# Altium footprint library STM32智能储物柜.PcbLib: 11 footprints
Each footprint in its own frame and in the unit in brackets; x right, y up, seen from the top. Pads: shape width x height; smd on the part's side, far side on the other; paste and mask are expansions set on the pad; w line width, h text height; cw(c..) or ccw(c..) is an arc to the next point about the centre after c.
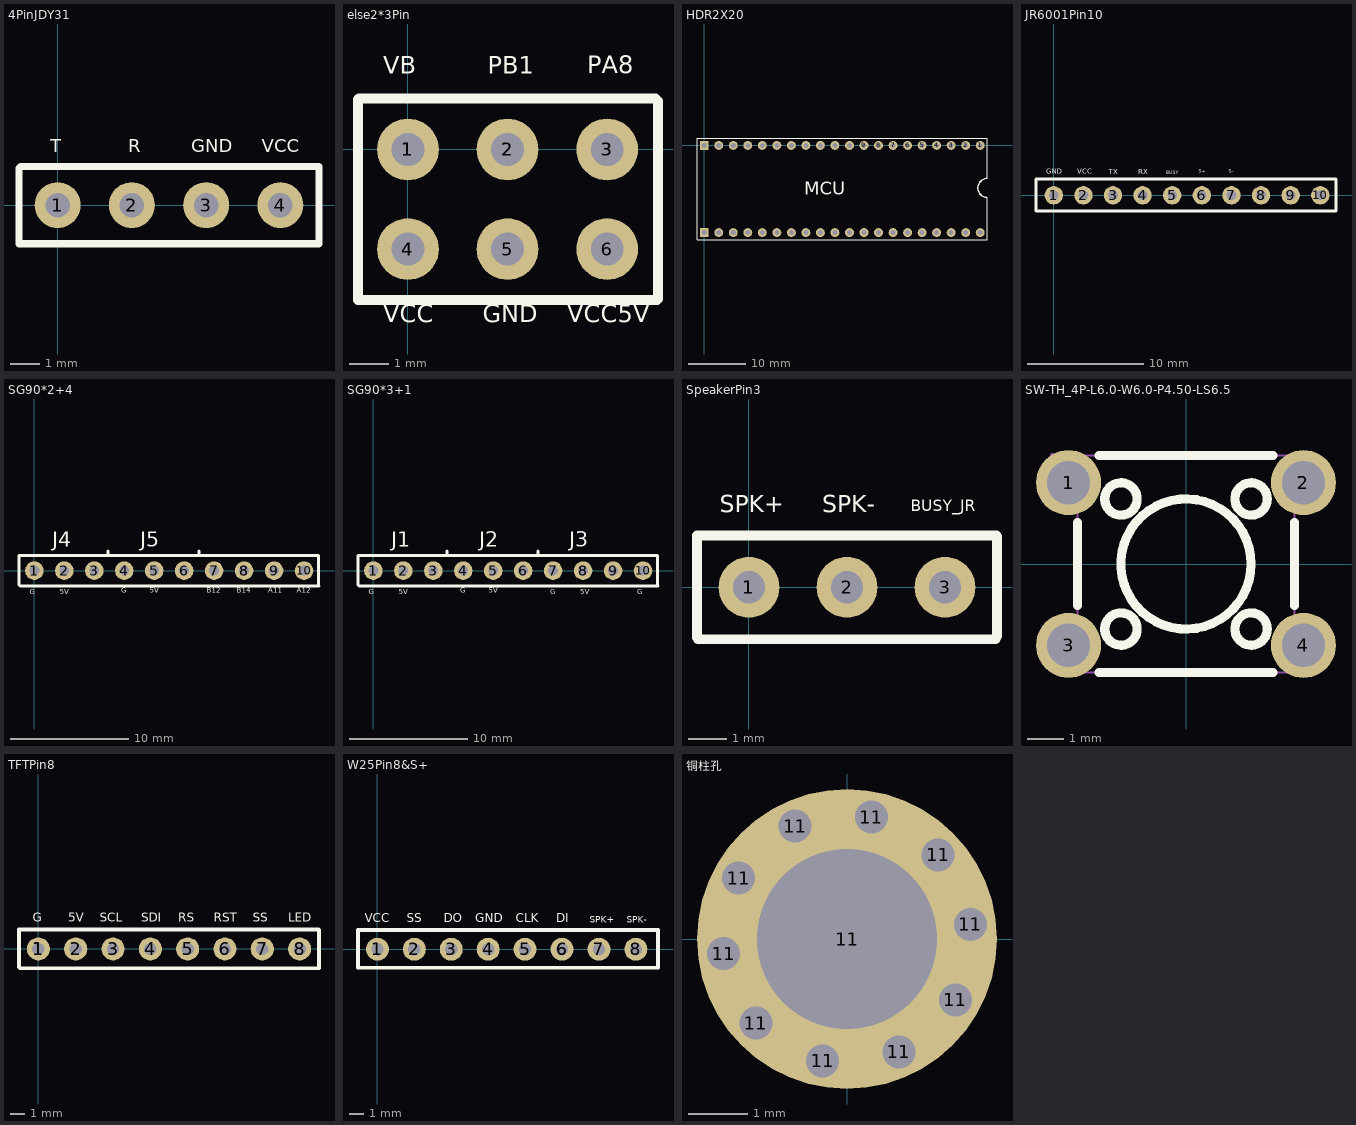
[diagram p0: the footprints below, top view; thin cyan lines are the x and y axes]

## 4PinJDY31 [mil] "jdy31"
pads (4):
  round 62 hole 33 mask+4: 1(0,0) 2(100,0) 3(200,0) 4(300,0)
Top Overlay:
  lines w10: -52,-52 -52,50 -50,52 352,52 352,-52 ; -50,-52 350,-52
  text "T" at -10,65 h30
  text "R" at 95,65 h30
  text "GND" at 180,65.36 h30
  text "VCC" at 275,65.33 h30

## else2*3Pin [mil] "其余IO&VCC"
pads (14):
  round 62 hole 33: 1(0,0) 1(0,0) 1(0,0) 1(0,0) 1(0,0) 1(0,0) 2(100,0) 2(100,0) 3(200,0) 3(200,0) 4(0,-100) 4(0,-100) 5(100,-100) 6(200,-100)
Top Overlay:
  lines w10: -50.12,50.42 -50.12,-151 250.01,-151 251,-150.01 251,48.57 248.4,51.17 -49.38,51.17
  text "VB" at -24.97,70 h30
  text "PB1" at 80,70 h30
  text "PA8" at 180,70.33 h30
  text "VCC" at -24.97,-179.67 h30
  text "GND" at 75,-179.67 h30
  text "VCC5V" at 160.03,-179.67 h30

## HDR2X20 [mil] "主控电路"
height 170.08
pads (40):
  round 61 hole 35.43: 1(1900,0) 2(1800,0) 3(1700,0) 4(1600,0) 5(1500,0) 6(1400,0) 7(1300,0) 8(1200,0) 9(1100,0) 10(1000,0) 11(900,0) 12(800,0) 13(700,0) 14(600,0) 15(500,0) 16(400,0) 17(300,0) 18(200,0) 19(100,0) 21(1900,-600) 22(1800,-600) 23(1700,-600) 24(1600,-600) 25(1500,-600) 26(1400,-600) 27(1300,-600) 28(1200,-600) 29(1100,-600) 30(1000,-600) 31(900,-600) 32(800,-600) 33(700,-600) 34(600,-600) 35(500,-600) 36(400,-600) 37(300,-600) 38(200,-600) 39(100,-600)
  rect 61x61 hole 35.43: 20(0,0) 40(0,-600)
Top Overlay:
  lines w7.87: -50,-550.75 -50,50 25,50 1950,50 1950,-227.04 ; -50,-550 -50,-650 1950,-650 1950,-358.9
  lines w10: 1950,-358.9 cw(c1950,-292.97) 1950,-227.04
  text "MCU" at 690,-340 h90

## JR6001Pin10 [mil] "JR6001语音"
pads (10):
  round 62 hole 33: 1(0,0) 2(100,0) 3(200,0) 4(300,0) 5(400,0) 6(500,0) 7(600,0) 8(700,0) 9(800,0) 10(900,0)
Top Overlay:
  lines w10: -60.04,-53 953,-53 953,55 -60,55 -60,-52.96
  text "S-" at 590,70.22 h20
  text "S+" at 490,70.22 h20
  text "BUSY" at 380,65.22 h20
  text "RX" at 285,65 h30
  text "TX" at 185,65 h30
  text "VCC" at 80.03,65.33 h30
  text "GND" at -25,65.33 h30

## SG90*2+4 [mil] "舵机*2"
pads (12):
  round 62 hole 33: 1(0,0) 1(0,0) 2(100,0) 3(200,0) 4(300,0) 5(400,0) 6(500,0) 7(600,0) 8(700,0) 8(700,0) 9(800,0) 10(900,0)
Top Overlay:
  lines w10: -51.2,51 948.1,51 948.1,-49.1 ; -51,50.69 -51,-47.68 -47.68,-51 950,-51 ; 245,50 245,65 ; 550,50 550,65
  text "G" at -15,-84.67 h30
  text "5V" at 385,-79.67 h30
  text "5V" at 85,-84.67 h30
  text "G" at 290,-79.67 h30
  text "J4" at 59,79 h50
  text "J5" at 354,79 h50
  text "A11" at 780,-80 h30
  text "A12" at 875,-80 h30
  text "B12" at 575,-80 h30
  text "B14" at 675,-80 h30

## SG90*3+1 [mil] "舵机*3"
pads (12):
  round 62 hole 33: 1(0,0) 1(0,0) 2(100,0) 3(200,0) 4(300,0) 5(400,0) 6(500,0) 7(600,0) 8(700,0) 8(700,0) 9(800,0) 10(900,0)
Top Overlay:
  lines w10: -51.2,51 948.1,51 948.1,-49.1 ; -51,50.69 -51,-47.68 -47.68,-51 950,-51 ; 245,50 245,65 ; 550,50 550,65
  text "G" at 590,-84.67 h30
  text "G" at -15,-84.67 h30
  text "5V" at 385,-79.67 h30
  text "5V" at 85,-84.67 h30
  text "G" at 290,-79.67 h30
  text "5V" at 690,-84.67 h30
  text "J1" at 59,79 h50
  text "J2" at 354,79 h50
  text "J3" at 654,79 h50
  text "G" at 880,-84.64 h30

## SpeakerPin3 [mil] "喇叭Pin3"
pads (4):
  round 62 hole 33: 1(0,0) 1(0,0) 2(100,0) 3(200,0)
Top Overlay:
  lines w10: -53,-51.29 -53,52.85 ; -52.01,-53 251.48,-53 ; -50.84,52.59 252.41,52.59 253,52 253,-50
  text "BUSY_JR" at 165,73.55 h20
  text "SPK+" at -30,70.33 h30
  text "SPK-" at 75,70.33 h30

## SW-TH_4P-L6.0-W6.0-P4.50-LS6.5 [mm] "矩阵键盘"
pads (4):
  round 1.8 hole 1.2: 1(-3.25,2.25) 2(3.25,2.25) 3(-3.25,-2.25) 4(3.25,-2.25)
Top Overlay:
  circle w0.254: c0,0 r1.8
  circle w0.254: c1.8,1.8 r0.447
  circle w0.254: c-1.8,1.8 r0.447
  circle w0.254: c-1.8,-1.8 r0.447
  circle w0.254: c1.8,-1.8 r0.447
  lines w0.254: -3,-1.147 -3,1.147 ; -2.404,-3 2.404,-3 ; -2.404,3 2.404,3 ; 3,-1.147 3,1.147
Mechanical 15:
  region: -3.64,3 -3.64,3.025 -3.675,3.06 -3.725,3.06 -3.76,3.025 -3.76,3 -3.76,2.975 -3.725,2.94 -3.675,2.94 -3.64,2.975 -3.64,3
  region: -2.9,-1.9 -2.9,-2.6 -3.7,-2.6 -3.7,-1.9
  region: -2.9,2.6 -2.9,1.9 -3.7,1.9 -3.7,2.6
  region: 2.9,1.9 2.9,2.6 3.7,2.6 3.7,1.9
  region: 2.9,-2.6 2.9,-1.9 3.7,-1.9 3.7,-2.6
  region: -3.4,-1.9 -3.1,-1.9 -3.1,-2.6 -3.4,-2.6
  region: -3.4,2.6 -3.1,2.6 -3.1,1.9 -3.4,1.9
  region: 3.1,2.6 3.4,2.6 3.4,1.9 3.1,1.9
  region: 3.1,-1.9 3.4,-1.9 3.4,-2.6 3.1,-2.6
  lines w0.051: -3,-3 3,-3 3,3 -3,3 -3,-3

## TFTPin8 [mil] "TFT1_44液晶屏"
pads (9):
  round 62 hole 33: 1(0,0) 1(0,0) 2(100,0) 3(200,0) 4(300,0) 5(400,0) 6(500,0) 7(600,0) 8(700,0)
Top Overlay:
  lines w10: -52,-48.91 -52,52 751.34,52 752,51.34 752,-52 -48.91,-52 -52,-48.91
  text "LED" at 670,65 h40
  text "SS" at 575,65.48 h40
  text "RST" at 470,65.48 h40
  text "RS" at 375,65.48 h40
  text "SDI" at 275,65.48 h40
  text "SCL" at 165,65.48 h40
  text "5V" at 80,65.48 h40
  text "G" at -15,65.48 h40

## W25Pin8&S+ [mil] "W25Q64"
pads (10):
  round 62 hole 33: 1(0,0) 1(0,0) 2(100,0) 3(200,0) 4(300,0) 5(400,0) 6(500,0) 6(500,0) 7(600,0)
  round 62 hole 33 paste+0 mask+4: 8(700,0)
Top Overlay:
  lines w10: -52.6,-50 -52.6,52 760,52 760,-50 -52.6,-50
  text "SPK-" at 675,65.33 h30
  text "SPK+" at 575,65.33 h30
  text "VCC" at -34.96,65.44 h40
  text "SS" at 80,65.44 h40
  text "DO" at 180,65.44 h40
  text "GND" at 265,65.44 h40
  text "CLK" at 375,65.44 h40
  text "DI" at 485,65 h40

## 铜柱孔 [mil]
height 35.43
pads (11):
  round 23 hole 22: 11(-82.21,-9.67) 11(-72.19,40.5) 11(-60.83,-56.14) 11(-34.6,75.2) 11(-16.21,-81.17) 11(16.21,81.17) 11(34.6,-75.2) 11(60.83,56.14) 11(72.19,-40.5) 11(82.21,9.67)
  round 200 hole 120: 11(0,0)